# EAGLE library part D__7SEGMENT_CA (library ++Bedrahtet)
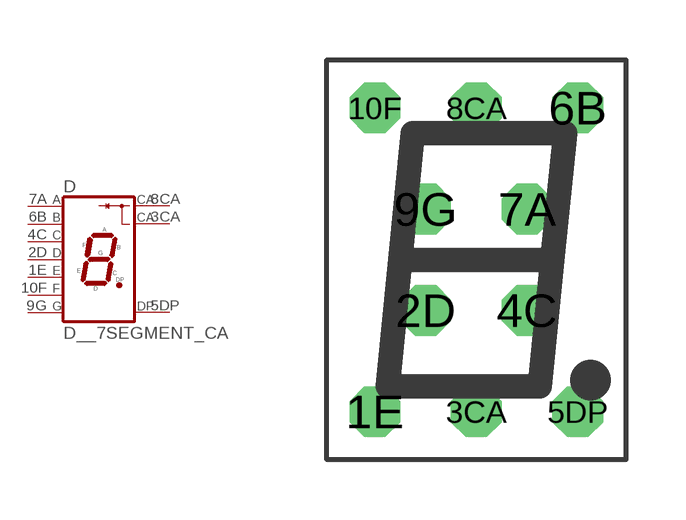
[diagram p2: symbol with the pads of 7SEGCA; footprint 7SEGCA]

Designator prefix D

## D__7SEGMENT_CA  [7SEGCA]
1E  E  pas
2D  D  pas
3CA  CA  pas
4C  C  pas
5DP  DP  pas
6B  B  pas
7A  A  pas
8CA  CA  pas
9G  G  pas
10F  F  pas

## Footprint 7SEGCA (pad centres in mm)
drill 0.6 pad 1.27 octagon: 1E -2.54,-3.81; 2D -1.27,-1.27; 3CA 0,-3.81; 4C 1.27,-1.27; 5DP 2.54,-3.81; 6B 2.54,3.81; 7A 1.27,1.27; 8CA 0,3.81; 9G -1.27,1.27; 10F -2.54,3.81